# Altium schematic symbol library UOMP fuses.SchLib: 1 symbol
Pins are listed as number, name and electrical type; pins without a type are passive.

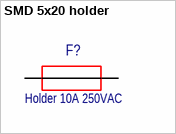
[diagram p0: symbol SMD 5x20 holder]

## SMD 5x20 holder
designator F?, comment Holder 10A 250VAC
Code: 6310016681; Name: Держатель предохранителя 5х20 OGN-SMD 0031.8225, Schurter
footprint FUSE: SMD 5x20 HOLDER
pins: 1, 2